# Altium schematic symbol library SHARP-LH28F008SCT-T9.schlib: 1 symbol
Pins are listed as number, name and electrical type; pins without a type are passive.

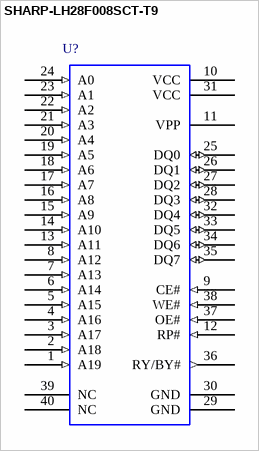
[diagram p0: symbol SHARP-LH28F008SCT-T9]

## SHARP-LH28F008SCT-T9
designator U?  (value not drawn)
Flash Memory 8Mbit (1Mbitx8); CircuitryPartsPN: SHARP-LH28F008SCT-T9; ManufacturerPN: LH28F008SCT-T9; Manufacturer: Sharp Microelectronics; CategoryI: Integrated Circuits (ICs); SchematicRev: A; DesignedBy: Circuitry Parts; MfgURL: http://www.sharpsma.com/; PackageName: TSOP40; FootprintName: *; CategoryII: Memory; Value: *; DesignedOn: 7/19/2005 11:03:48 AM
pins: 1 A19 (in), 2 A18 (in), 3 A17 (in), 4 A16 (in), 5 A15 (in), 6 A14 (in), 7 A13 (in), 8 A12 (in), 9 CE# (in), 10 VCC (power), 11 VPP (power), 12 RP# (in), 13 A11 (in), 14 A10 (in), 15 A9 (in), 16 A8 (in), 17 A7 (in), 18 A6 (in), 19 A5 (in), 20 A4 (in), 21 A3 (in), 22 A2 (in), 23 A1 (in), 24 A0 (in), 25 DQ0 (io), 26 DQ1 (io), 27 DQ2 (io), 28 DQ3 (io), 29 GND (power), 30 GND (power), 31 VCC (power), 32 DQ4 (io), 33 DQ5 (io), 34 DQ6 (io), 35 DQ7 (io), 36 RY/BY# (out), 37 OE# (in), 38 WE# (in), 39 NC, 40 NC